# Altium schematic symbol library Schematics.SchLib: 4 symbols
Pins are listed as number, name and electrical type; pins without a type are passive.

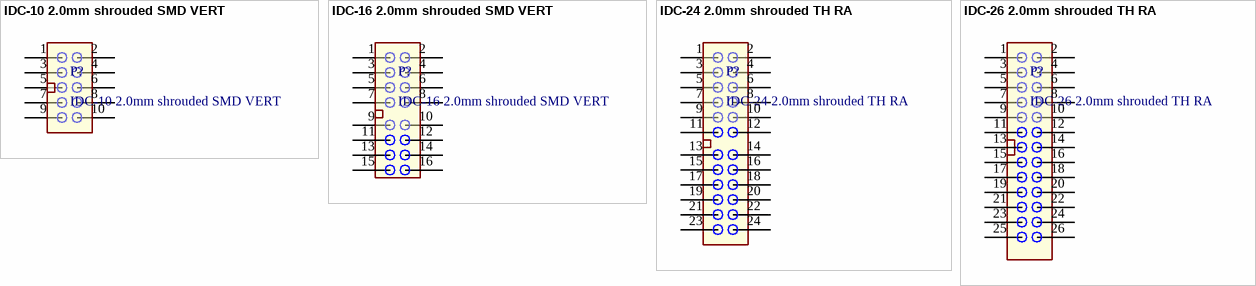
[diagram p0: symbols IDC-10 2.0mm shrouded SMD VERT to IDC-26 2.0mm shrouded TH RA]

## IDC-10 2.0mm shrouded SMD VERT
designator P?
footprint IDC-10 2.0mm shrouded SMD VERT
pins: 1, 2, 3, 4, 5, 6, 7, 8, 9, 10

## IDC-16 2.0mm shrouded SMD VERT
designator P?
footprint IDC-16 2.0mm shrouded SMD VERT
pins: 1, 2, 3, 4, 5, 6, 7, 8, 9, 10, 11, 12, 13, 14, 15, 16

## IDC-24 2.0mm shrouded TH RA
designator P?
footprint IDC-24 2.0mm shrouded TH RA
pins: 1, 2, 3, 4, 5, 6, 7, 8, 9, 10, 11, 12, 13, 14, 15, 16, 17, 18, 19, 20, 21, 22, 23, 24

## IDC-26 2.0mm shrouded TH RA
designator P?
footprint IDC-26 2.0mm shrouded TH RA - duplicate (IDC-26 2.0mm shrouded TH RA)
pins: 1, 2, 3, 4, 5, 6, 7, 8, 9, 10, 11, 12, 13, 14, 15, 16, 17, 18, 19, 20, 21, 22, 23, 24, 25, 26